# Altium schematic symbol library 5mm_4-pin_RGB_LED_CC.SchLib: 1 symbol
Pins are listed as number, name and electrical type; pins without a type are passive.

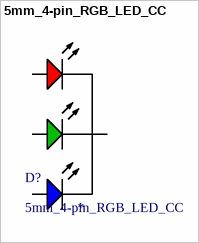
[diagram p0: symbol 5mm_4-pin_RGB_LED_CC]

## 5mm_4-pin_RGB_LED_CC
designator D?
5mm 4 pin tri-color RGB LED Common Cathode; LCSC: *
footprint 5mm_4-pin_RGB_LED_CC
pins: 1 RED, 2 CATHODE, 3 BLUE, 4 GREEN